# Altium schematic symbol library CPH6223.Schlib: 1 symbol
Pins are listed as number, name and electrical type; pins without a type are passive.

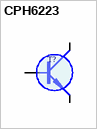
[diagram p0: symbol CPH6223]

## CPH6223
designator T?
SOT23     50V 3A 380MHz 13p(10V) (CPH6123)
pins: 1 C (oc), 2 C (oc), 3 B, 4 E (oe), 5 C (oc), 6 C (oc)
1 alternate drawing of the same symbol